# EAGLE library part LED-RGB-SMD (library PiB_leds)
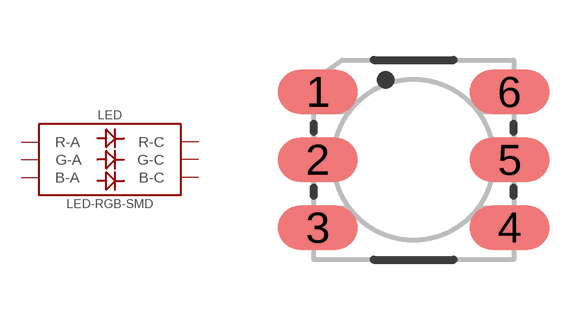
[diagram p0: symbol with the pads of LED-RGB_SMD_5050; footprint LED-RGB_SMD_5050]

Designator prefix LED

## LED-RGB-SMD (CREATOR: MrSwirlyEyes; DATASHEET: https://cdn.sparkfun.com/datasheets/Components/LED/5060BRG4.pdf; DIST: Sparkfun; DISTLINK: https://www.sparkfun.com/products/10866; DISTPN: COM-10866; MFR: Yetda Industry Ltd.; MPN: 5060BRG4; TESTED: NO; VALUE: RGB)  [LED-RGB_SMD_5050]
1  G-A  pas
2  R-A  pas
3  B-A  pas
4  B-C  pas
5  R-C  pas
6  G-C  pas

## Footprint LED-RGB_SMD_5050 (pad centres in mm)
smd 2 x 1.1: 1 -2.4,1.7; 2 -2.4,0; 3 -2.4,-1.7; 4 2.4,-1.7; 5 2.4,0; 6 2.4,1.7